# EAGLE library part IRS27951SPBF (library International_Rectifier_By_element14_Batch_1)
RESONANT HALF-BRIDGE CONVERTER CONTROL IC
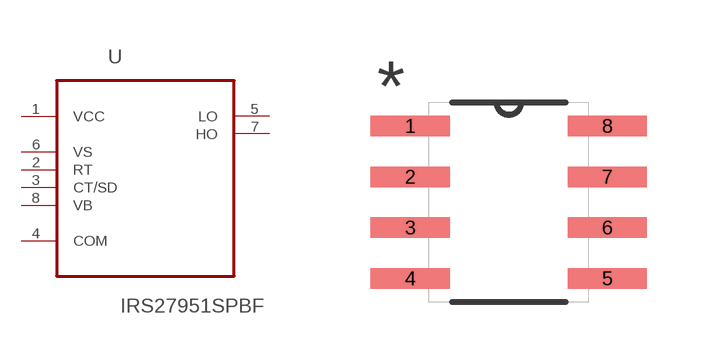
[diagram p105: symbol with the pads of SOIC127P600X175-8N; footprint SOIC127P600X175-8N]

Designator prefix U

## IRS27951SPBF (MPN: IRS27951SPBF; OC_FARNELL: 1866042; OC_NEWARK: 39T4529; PACKAGE: SOIC-8; SUPPLIER: INTERNATIONAL RECTIFIER)  [SOIC127P600X175-8N]
1  VCC  pwr
2  RT  in
3  CT/SD  in
4  COM  pas
5  LO  out
6  VS  in
7  HO  out
8  VB  in

## Footprint SOIC127P600X175-8N (pad centres in mm)
smd 1.981 x 0.508: 1 -2.464,1.905; 2 -2.464,0.635; 3 -2.464,-0.635; 4 -2.464,-1.905; 5 2.464,-1.905; 6 2.464,-0.635; 7 2.464,0.635; 8 2.464,1.905